# Altium schematic symbol library 7499711421.SchLib: 1 symbol
Pins are listed as number, name and electrical type; pins without a type are passive.

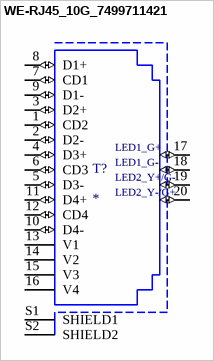
[diagram p0: symbol WE-RJ45_10G_7499711421]

## WE-RJ45_10G_7499711421
designator T?
<b>WE-RJ45 10G Transformer <br> <br>Characteristics <br> <br></b>RJ45 Connector with integrated transformer / common mode choke <br>Power over Ethernet up to 50 Watt and speeds up to 10 Gbit/s <br>Available in SMD, THT and THT with USB <br>Compliant with standards: IEEE 802.3u, IEEE 802.3ab, IEEE 802.3af, IEEE 802.3at, IEEE 802.3an and upcoming IEE 802.3bt <br> <br><b> Applications <br> <br></b>Suitable for industrial temperatures from â€“40 Â°C up to +85 Â°C <br>Compatible to Industrial Ethernet systems like EtherCAT or Profinet <br>Compliant with most ICâ€™s for Ethernet applications such as Microchip, Texas Instruments, Broadcom, Linear Technology <br>Hubs, Routers, Switches, IP cameras, IoT applications <br> <br> <br><a href="https://katalog.we-online.com/media/images/v2/o122818v209%20Family_WE-RJ45LAN_10G_7499611420_a.jpg" title="Enlarge picture"> <img src="https://katalog.we-online.com/media/images/v2/o122818v209%20Family_WE-RJ45LAN_10G_7499611420_a.jpg" width="320"></a><p> Details see: <a href="https://katalog.we-online.com/en/pbs/WE-LAN-RJ45-10G">https://katalog.we-online.com/en/pbs/WE-LAN-RJ45-10G</a><p> Updated By Ella Wu  2019-08-15<br> 2019 (C) Wurth Elektronik; MF: {'manufacturer': u'Wurth Elektronik'}; MP: 7499711421; Package: None; Price: None; Value: *; Availability: Unavailable
footprint 7499711421
pins: 1 CD2 (io), 2 D2- (io), 3 D2+ (io), 4 D3+ (io), 5 D3- (io), 6 CD3 (io), 7 CD1 (io), 8 D1+ (io), 9 D1- (io), 10 D4- (io), 11 D4+ (io), 12 CD4 (io), 13 V1 (power), 14 V2 (power), 15 V3 (power), 16 V4 (power), 17 LED1_G+ (io), 18 LED1_G- (io), 19 LED2_Y+_G- (io), 20 LED2_Y-_G+ (io), S1 SHIELD1 (power), S2 SHIELD2 (power)
text: LED2_Y+/G-; LED2_Y-/G+